# EAGLE library part USB3106-30-0230-A (library USB connector)
MICRO A/B SKT, VERTICAL, TH, 30" Manufacturer's datasheet <https://gct.co/files/drawings/usb3106.pdf>
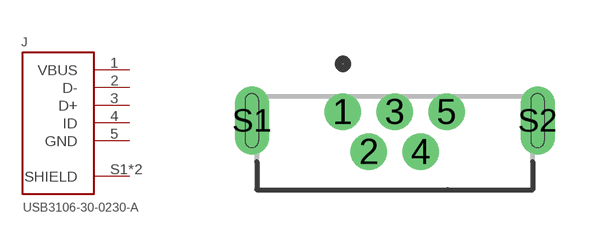
[diagram p3: symbol with the pads of USB3106-30-0230-A; footprint USB3106-30-0230-A]

Designator prefix J

## USB3106-30-0230-A (CREATED_BY: PCBLayout.com; DIGIKEY_PARTNO: 2073-USB3106-30-0230-ATR-ND; MANUFACTURER: GCT; MPN: USB3106-30-0230-A)  [USB3106-30-0230-A]
1  VBUS  pas
2  D-  pas
3  D+  pas
4  ID  pas
5  GND  pas
S1  SHIELD  pwr
S2  SHIELD  pwr

## Footprint USB3106-30-0230-A (pad centres in mm)
drill 0.4: 1 -1.3,0; 2 -0.65,-1; 3 0,0; 4 0.65,-1; 5 1.3,0
drill 0.35 long: S1 -3.575,-0.22; S2 3.575,-0.22